# EAGLE library part HDR-2X9 (library connector)
CONN HEADER .100" DUAL STR 18POS
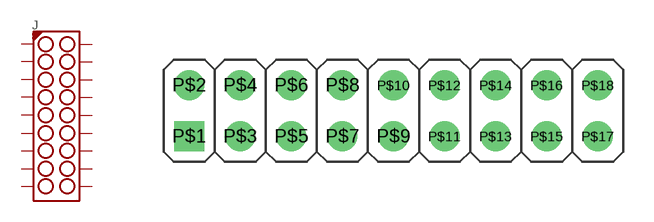
[diagram p16: symbol with the pads of 100MIL_2ROW_BREAK_18; footprint 100MIL_2ROW_BREAK_18]

Designator prefix J

## HDR-2X9 (DIGIKEY: S2212EC-09-ND; MFR: SULLINS; MPN: PREC009DFAN-RC)  [100MIL_2ROW_BREAK_18]
P$1  1
P$2  2
P$3  3
P$4  4
P$5  5
P$6  6
P$7  7
P$8  8
P$9  9
P$10  10
P$11  11
P$12  12
P$13  13
P$14  14
P$15  15
P$16  16
P$17  17
P$18  18

## Footprint 100MIL_2ROW_BREAK_18 (pad centres in mm)
drill 0.991 square: P$1 -10.16,-1.27
drill 0.991: P$2 -10.16,1.27; P$3 -7.62,-1.27; P$4 -7.62,1.27; P$5 -5.08,-1.27; P$6 -5.08,1.27; P$7 -2.54,-1.27; P$8 -2.54,1.27; P$9 0,-1.27; P$10 0,1.27; P$11 2.54,-1.27; P$12 2.54,1.27; P$13 5.08,-1.27; P$14 5.08,1.27; P$15 7.62,-1.27; P$16 7.62,1.27; P$17 10.16,-1.27; P$18 10.16,1.27